# Altium footprint library Jumper-SolderBridge.PcbLib: 23 footprints (part 1 of 2)
Each footprint in its own frame and in the unit in brackets; x right, y up, seen from the top. Pads: shape width x height; smd on the part's side, far side on the other; paste and mask are expansions set on the pad; w line width, h text height; cw(c..) or ccw(c..) is an arc to the next point about the centre after c.
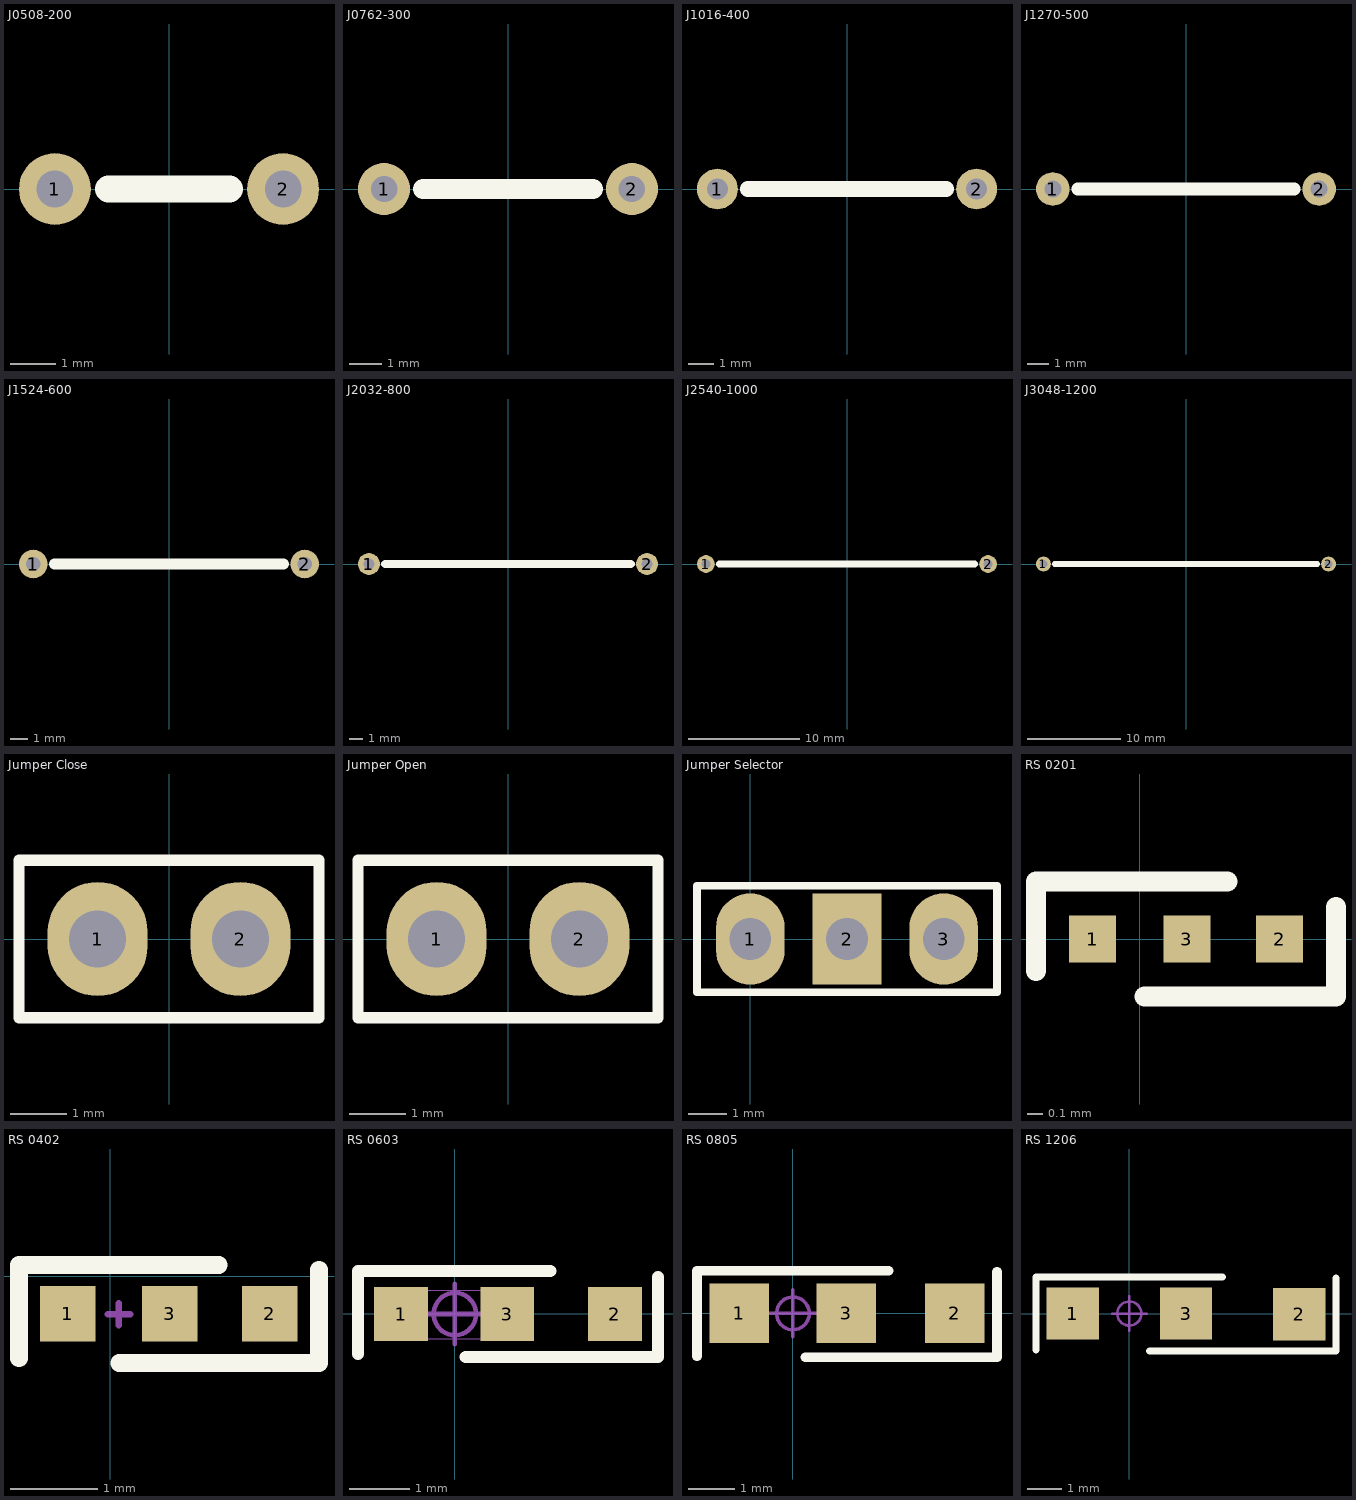
[diagram p0: the footprints below, top view; thin cyan lines are the x and y axes]

## J0508-200 [mil] "5.08 mm (200mil) Jumper wire"
pads (2):
  round 63 hole 32: 1(-100,0) 2(100,0)
Top Overlay:
  lines w24: -53,0 53,0
3D body: height 33.46, standoff 5.91, extent -113.64,-13.72 -86.22,13.72
3D body: height 33.46, standoff 5.91, extent 86.36,-13.72 113.78,13.72
3D body: height 33.44, standoff 5.93, extent -100,-13.67 100,13.78
3D body: height 19.68, standoff -78.74, extent -113.67,-13.75 -86.22,13.75
3D body: height 19.68, standoff -78.74, extent 86.33,-13.75 113.78,13.75

## J0762-300 [mil] "7.62 mm (300 mil) Jumper wire"
pads (2):
  round 63 hole 32: 1(-150,0) 2(150,0)
Top Overlay:
  lines w24: -103,0 103,0
3D body: height 19.68, standoff -78.74, extent 136.33,-13.81 163.78,13.7
3D body: height 19.68, standoff -78.74, extent -163.67,-13.75 -136.22,13.75
3D body: height 33.44, standoff 5.93, extent -150,-13.67 150,13.78
3D body: height 33.46, standoff 5.91, extent 136.36,-13.78 163.78,13.67
3D body: height 33.46, standoff 5.91, extent -163.64,-13.72 -136.22,13.72

## J1016-400 [mil] "10.16 mm (400 mil) Jumper wire"
pads (2):
  round 63 hole 32: 1(-200,0) 2(200,0)
Top Overlay:
  lines w24: -153,0 153,0
3D body: height 33.46, standoff 5.91, extent -213.64,-13.72 -186.22,13.72
3D body: height 33.46, standoff 5.91, extent 186.36,-13.72 213.78,13.72
3D body: height 33.44, standoff 5.93, extent -200,-13.67 200,13.78
3D body: height 19.68, standoff -78.74, extent -213.67,-13.75 -186.22,13.75
3D body: height 19.68, standoff -78.74, extent 186.33,-13.75 213.78,13.75

## J1270-500 [mil] "12.7 mm (500 mil) Jumper wire"
pads (2):
  round 63 hole 32: 1(-250,0) 2(250,0)
Top Overlay:
  lines w24: -203,0 203,0
3D body: height 19.68, standoff -78.74, extent 236.33,-13.75 263.78,13.75
3D body: height 19.68, standoff -78.74, extent -263.67,-13.75 -236.22,13.75
3D body: height 33.44, standoff 5.93, extent -250,-13.67 250,13.78
3D body: height 33.46, standoff 5.91, extent 236.36,-13.72 263.78,13.72
3D body: height 33.46, standoff 5.91, extent -263.64,-13.72 -236.22,13.72

## J1524-600 [mil] "15.24 mm (600 mil) Jumper wire"
pads (2):
  round 63 hole 32: 1(-300,0) 2(300,0)
Top Overlay:
  lines w24: -253,0 253,0
3D body: height 33.46, standoff 5.91, extent -313.64,-13.72 -286.22,13.72
3D body: height 33.46, standoff 5.91, extent 286.36,-13.72 313.78,13.72
3D body: height 33.44, standoff 5.93, extent -300,-13.67 300,13.78
3D body: height 19.68, standoff -78.74, extent -313.67,-13.75 -286.22,13.75
3D body: height 19.68, standoff -78.74, extent 286.33,-13.75 313.78,13.75

## J2032-800 [mil] "20.32 mm (800 mil) Jumper wire"
pads (2):
  round 63 hole 32: 1(-400,0) 2(400,0)
Top Overlay:
  lines w24: -353,0 353,0
3D body: height 19.68, standoff -78.74, extent 386.33,-13.75 413.78,13.75
3D body: height 19.68, standoff -78.74, extent -413.67,-13.75 -386.22,13.75
3D body: height 33.44, standoff 5.93, extent -400,-13.67 400,13.78
3D body: height 33.46, standoff 5.91, extent 386.36,-13.72 413.78,13.72
3D body: height 33.46, standoff 5.91, extent -413.64,-13.72 -386.22,13.72

## J2540-1000 [mil] "25.4 mm (1000 mil) Jumper wire"
pads (2):
  round 63 hole 32: 1(-500,0) 2(500,0)
Top Overlay:
  lines w24: -453,0 453,0
3D body: height 19.68, standoff -78.74, extent 486.33,-13.86 513.78,13.64
3D body: height 19.68, standoff -78.74, extent -513.67,-13.75 -486.22,13.75
3D body: height 33.44, standoff 5.93, extent -500,-13.67 500,13.78
3D body: height 33.46, standoff 5.91, extent 486.36,-13.83 513.78,13.61
3D body: height 33.46, standoff 5.91, extent -513.64,-13.72 -486.22,13.72

## J3048-1200 [mil] "30.48 mm (1200 mil) Jumper wire"
pads (2):
  round 63 hole 32: 1(-600,0) 2(600,0)
Top Overlay:
  lines w24: -553,0 553,0
3D body: height 33.46, standoff 5.91, extent -613.64,-13.72 -586.22,13.72
3D body: height 33.46, standoff 5.91, extent 586.36,-13.83 613.78,13.61
3D body: height 33.44, standoff 5.93, extent -600,-13.67 600,13.78
3D body: height 19.68, standoff -78.74, extent -613.67,-13.75 -586.22,13.75
3D body: height 19.68, standoff -78.74, extent 586.33,-13.86 613.78,13.64

## Jumper Close [mil]
pads (2):
  oval 70x80 hole 40: 1(-50,0) 2(50,0)
Top Overlay:
  lines w7.87: -105.12,-55.12 105.12,-55.12 105.12,55.12 -105.12,55.12 -105.12,-55.12
3D body "jumper_akspt_g-grey.STEP": height 337.4, standoff 102.36, extent -98.03,-48.03 98.03,48.03
3D body "header02.STEP": height 330, standoff -100, extent -100,-50 100,50

## Jumper Open [mil]
pads (2):
  oval 70x80 hole 40: 1(-50,0) 2(50,0)
Top Overlay:
  lines w7.87: -105.12,-55.12 -105.12,55.12 105.12,55.12 105.12,-55.12 -105.12,-55.12
3D body "header02.STEP": height 330, standoff -100, extent -100,-50 100,50
3D body "jumper_akspt_g-grey.STEP": height 337.4, standoff 102.36, extent 2.75,-48.03 198.82,48.03

## Jumper Selector [mm]
pads (3):
  oval 1.8x2.4 hole 1.1: 1(0,0) 3(5.08,0)
  rect 1.8x2.4 hole 1.1: 2(2.54,0)
Top Overlay:
  lines w0.2: -1.4,-1.4 6.48,-1.4 6.48,1.4 -1.4,1.4 -1.4,-1.4
3D body "Header3.STEP": height 8.38, standoff -2.54, extent -1.245,-1.27 6.375,1.27
3D body: height 9.65, standoff 2.67, extent -1.245,-1.27 3.835,1.27

## RS 0201 [mm]
pads (3):
  rect 0.3x0.3 smd: 1(-0.3,0) 2(0.889,0) 3(0.3,0)
Top Overlay:
  lines w0.127: -0.66,-0.203 -0.66,0.366 0.559,0.366 ; 0.029,-0.366 1.249,-0.366 1.249,0.204
3D body "R 0201.STEP": height 0.23, standoff 0, extent -0.3,-0.15 0.3,0.15

## RS 0402 [mil]
pads (3):
  rect 25x25 smd: 1(-19,-17) 2(72,-17) 3(27,-17)
Top Overlay:
  lines w8: -41,-37 -41,5 16,5 49,5 ; 4.13,-39.06 94.13,-39.06 94.13,2.94
Mechanical 15:
  lines w3: -1,-17.16 9,-17.16 ; 4,-22.16 4,-12.16
3D body "R 0402.STEP": height 11.85, standoff -0.09, extent -15.68,-26.99 23.69,-7.31

## RS 0603 [mil]
pads (3):
  rect 35x35 smd: 1(-35,0) 2(104,0) 3(34,0)
Top Overlay:
  lines w8: -63,-26 -63,26 ; -63,28 17,28 62,28 ; 7,-28 89.69,-28 ; 87,-28 132,-28 132,24
Mechanical 13:
  lines w0.39: -31.5,-16 -31.5,15.49 31.49,15.49 31.49,-16 -31.5,-16
Mechanical 15:
  circle w3: c0,0 r13.78
  lines w3: -19.69,0 19.68,0 ; 0,-19.69 0,19.68
3D body "R 0603.STEP": height 15.79, standoff -0.13, extent -31.49,-15.74 31.5,15.75

## RS 0805 [mil]
pads (3):
  rect 50x50 smd: 1(-45,0) 2(136,0) 3(45,0)
Top Overlay:
  lines w8: -80.71,-36 -80.71,36 20,36 80.71,36 ; 10.29,-37 111,-37 171.71,-37 171.71,35
Mechanical 15:
  circle w3: c0,0 r13.78
  lines w3: -19.69,0 19.68,0 ; 0,-19.69 0,19.68
3D body "R 0805.STEP": height 19.72, standoff -0.24, extent -39.37,-24.6 39.37,24.61

## RS 1206 [mil]
pads (3):
  rect 60x60 smd: 1(-65,0) 2(194.7,-0.75) 3(65,0)
Top Overlay:
  lines w8: -107,-42 -107,42 35,42 107,42 ; 23,-43 165,-43 237,-43 237,41
Mechanical 15:
  circle w3: c0,0 r13.78
  lines w3: -19.69,0 19.68,0 ; 0,-19.69 0,19.68
3D body "R 1206.STEP": height 21.69, standoff -0.24, extent -62.99,-31.49 63,31.5